# Altium footprint library MC34063A_pics.PcbLib: 1 footprints
Each footprint in its own frame and in the unit in brackets; x right, y up, seen from the top. Pads: shape width x height; smd on the part's side, far side on the other; paste and mask are expansions set on the pad; w line width, h text height; cw(c..) or ccw(c..) is an arc to the next point about the centre after c.
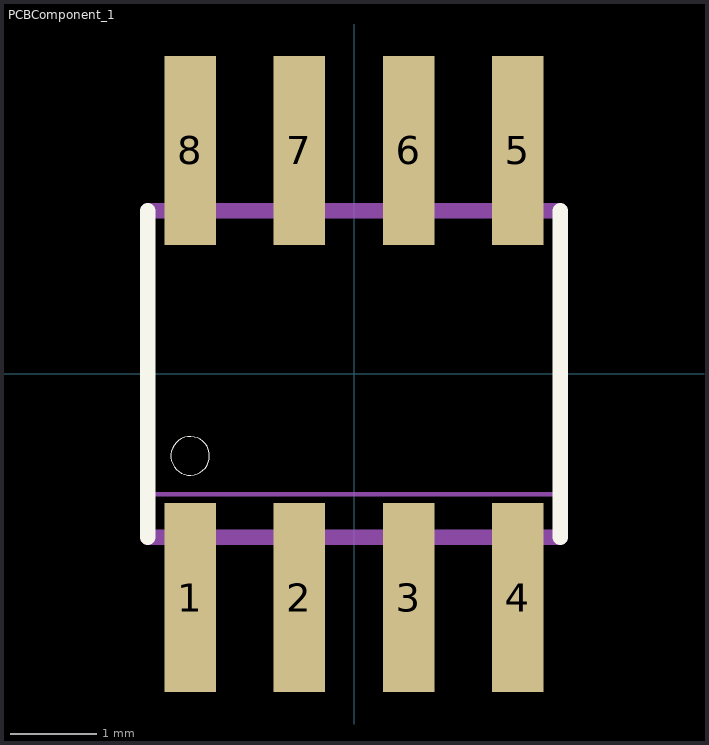
[diagram p0: the footprint, top view; thin cyan lines are the x and y axes]

## PCBComponent_1 [mm]
pads (8):
  rect 0.6x2.2 smd: 1(-1.905,-2.6) 2(-0.635,-2.6) 3(0.635,-2.6) 4(1.905,-2.6) 5(1.905,2.6) 6(0.635,2.6) 7(-0.635,2.6) 8(-1.905,2.6)
Top Overlay:
  circle w0: c-1.905,-0.953 r0.225
  lines w0.178: -2.4,-1.9 -2.4,1.9 ; 2.4,-1.9 2.4,1.9
Mechanical 4:
  region: -2.152,-2 -1.66,-2 -1.66,-3.103 -2.152,-3.103
  region: -0.881,-2 -0.39,-2 -0.39,-3.102 -0.881,-3.102
  region: 0.39,-2 0.88,-2 0.88,-3.1 0.39,-3.1
  region: 1.66,-2 2.15,-2 2.15,-3.101 1.66,-3.101
  region: 1.661,3.1 2.15,3.1 2.15,2.001 1.661,2.001
  region: 0.39,3.1 0.88,3.1 0.88,2.002 0.39,2.002
  region: -0.88,3.1 -0.39,3.1 -0.39,2.001 -0.88,2.001
  region: -2.154,3.1 -1.66,3.1 -1.66,2.003 -2.154,2.003
  region: -2.152,-2 -1.66,-2 -1.66,-3.103 -2.152,-3.103
  region: -0.881,-2 -0.39,-2 -0.39,-3.102 -0.881,-3.102
  region: 0.39,-2 0.88,-2 0.88,-3.1 0.39,-3.1
  region: 1.66,-2 2.15,-2 2.15,-3.101 1.66,-3.101
  region: 1.661,3.1 2.15,3.1 2.15,2.001 1.661,2.001
  region: 0.39,3.1 0.88,3.1 0.88,2.002 0.39,2.002
  region: -0.88,3.1 -0.39,3.1 -0.39,2.001 -0.88,2.001
  region: -2.154,3.1 -1.66,3.1 -1.66,2.003 -2.154,2.003
  lines w0.051: -2.4,-1.4 2.4,-1.4 -2.4,-1.4
  lines w0.178: -2.4,-1.9 2.4,-1.9 -2.4,-1.9 ; -2.4,1.9 2.4,1.9 -2.4,1.9
3D body "D0008A.stp": height 1.63, standoff 0, extent -2.451,-3.011 2.451,3.011